# Altium schematic symbol library C3225X7R1E226M250AB.SchLib: 1 symbol
Pins are listed as number, name and electrical type; pins without a type are passive.

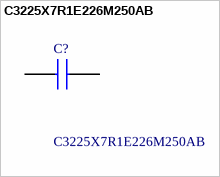
[diagram p0: symbol C3225X7R1E226M250AB]

## C3225X7R1E226M250AB
designator C?
MULTILAYER CERAMIC CHIP CAPACITORS, 3225, Commercial grade, general (Up to 75V); Manufacturer_Name: TDK; Geometry.Height: 2.3mm; Mouser Part Number: 810-C3225X7R1EM250AB; Mouser Price/Stock: https://www.mouser.co.uk/ProductDetail/TDK/C3225X7R1E226M250AB?qs=gZXFycFWdAOxso2lxwRfpg%3D%3D; Manufacturer_Part_Number: C3225X7R1E226M250AB; Datasheet Link: https://product.tdk.com/info/en/catalog/datasheets/mlcc_commercial_midvoltage_en.pdf
footprint CAPC3225X230N
pins: 1, 2